# EAGLE library part ATTINY1634 (library pie)
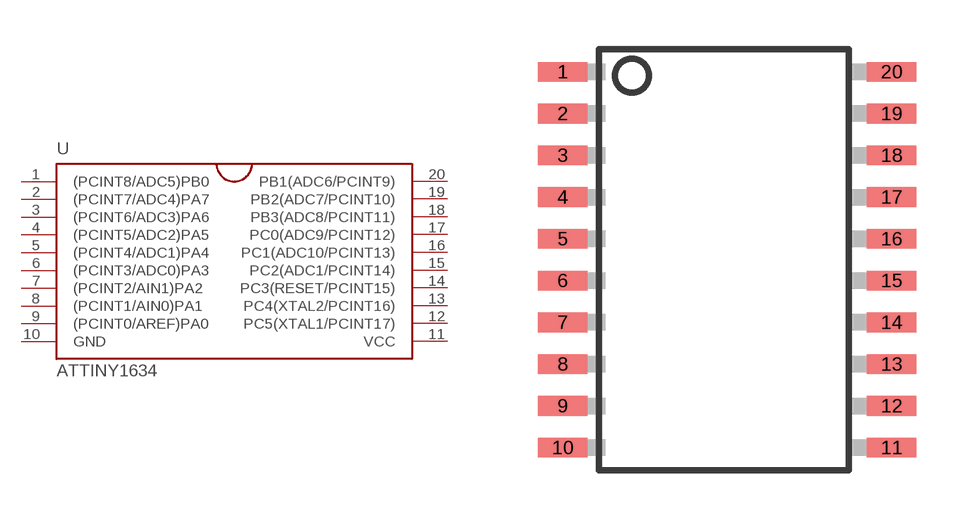
[diagram p17: symbol with the pads of SOIC20; footprint SOIC20]

Designator prefix U

## ATTINY1634 (PIE-INT-REF-NUM: ATtiny1634)  [SOIC20]
1  (PCINT8/ADC5)PB0
2  (PCINT7/ADC4)PA7
3  (PCINT6/ADC3)PA6
4  (PCINT5/ADC2)PA5
5  (PCINT4/ADC1)PA4
6  (PCINT3/ADC0)PA3
7  (PCINT2/AIN1)PA2
8  (PCINT1/AIN0)PA1
9  (PCINT0/AREF)PA0
10  GND
11  VCC
12  PC5(XTAL1/PCINT17)
13  PC4(XTAL2/PCINT16)
14  PC3(RESET/PCINT15)
15  PC2(ADC1/PCINT14)
16  PC1(ADC10/PCINT13)
17  PC0(ADC9/PCINT12)
18  PB3(ADC8/PCINT11)
19  PB2(ADC7/PCINT10)
20  PB1(ADC6/PCINT9)

## Footprint SOIC20 (pad centres in mm)
Wide Plastic Gull Wing Small Outline Package
smd 1.5 x 0.6: 1 -5,5.715; 2 -5,4.445; 3 -5,3.175; 4 -5,1.905; 5 -5,0.635; 6 -5,-0.635; 7 -5,-1.905; 8 -5,-3.175; 9 -5,-4.445; 10 -5,-5.715; 11 5,-5.715; 12 5,-4.445; 13 5,-3.175; 14 5,-1.905; 15 5,-0.635; 16 5,0.635; 17 5,1.905; 18 5,3.175; 19 5,4.445; 20 5,5.715